# Altium integrated library Capacitors - Aluminum - Electrolytic SMT.IntLib: 1988 symbols (part 48 of 50)
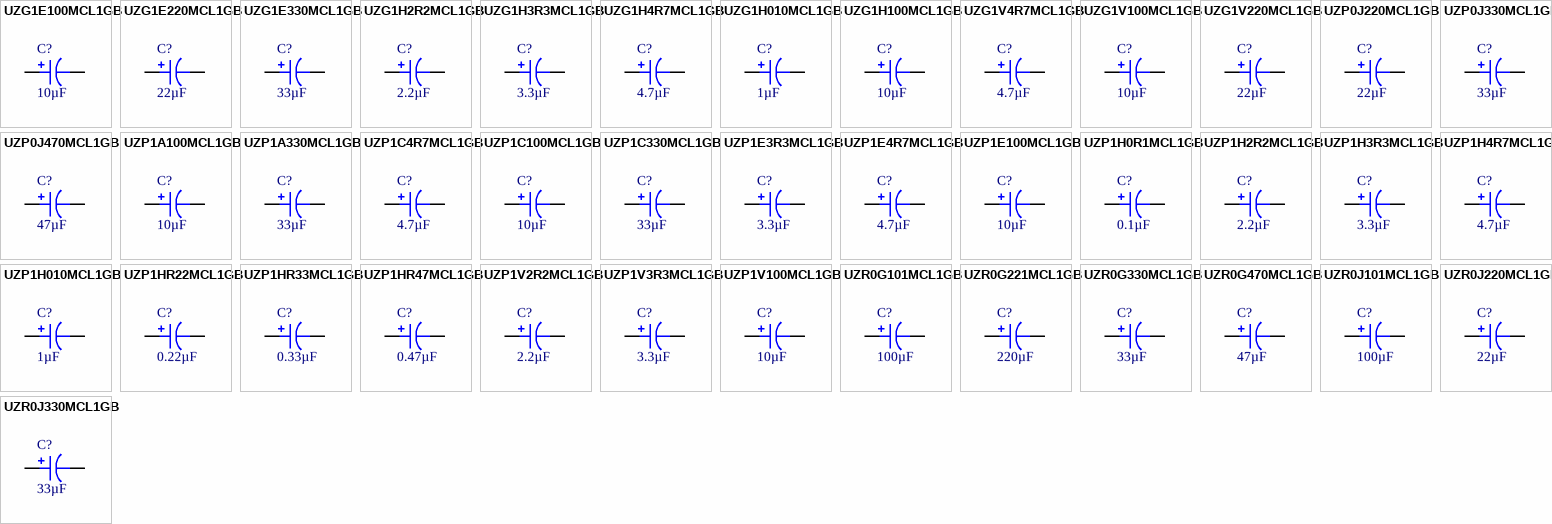
[diagram p95: symbols UZG1E100MCL1GB to UZR0J330MCL1GB]

## UZG1V100MCL1GB
designator C?, comment 10µF
CAP ALUM 10UF 20% 35V SMD; Part Number: UZG1V100MCL1GB; Manufacturer: Nichicon; Lifetime @ Temp.: 1000 Hrs @ 105°C; Ripple Current @ High Frequency: 33mA @ 10kHz; Ripple Current @ Low Frequency: 22mA @ 120Hz; Surface Mount Land Size: 0.209" L x 0.209" W (5.30mm x 5.30mm); Applications: General Purpose; Capacitance: 10µF; ComponentLink1Description: Datasheet; ComponentLink1URL: http://nichicon-us.com/english/products/pdfs/e-uzg.pdf; ComponentLink2Description: DigiKey Link; ComponentLink2URL: http://digikey.com/product-detail/en/nichicon/UZG1V100MCL1GB/493-10059-1-ND/3983904; Device Package: Radial, Can - SMD; Height - Seated (Max): 0.156" (3.95mm); LastUpdated: 9/2/2020 1:18:29 AM; Lifecycle Status: Active; Minimum Order: 1; Mounting Type: Surface Mount; Operating Temperature: -40°C ~ 105°C; Package / Case: Radial, Can - SMD; Packaging: TapeAndReel; PartId: 8573; Part Status: Active; Price: 0.19; Series: UZG; Size / Dimension: 0.197" Dia (5.00mm); Supplier 1: DigiKey; Supplier Part Number 1: 493-10059-1-ND; Tolerance: ±20%; Value: 10µF; Voltage - Rated: 35V
footprint CAP ALSMD 5.3MM H5.4MM
pins: 1, 2

## UZG1V220MCL1GB
designator C?, comment 22µF
CAP ALUM 22UF 20% 35V SMD; Part Number: UZG1V220MCL1GB; Manufacturer: Nichicon; Lifetime @ Temp.: 1000 Hrs @ 105°C; Ripple Current @ High Frequency: 54mA @ 10kHz; Ripple Current @ Low Frequency: 36mA @ 120Hz; Surface Mount Land Size: 0.260" L x 0.260" W (6.60mm x 6.60mm); Applications: General Purpose; Capacitance: 22µF; ComponentLink1Description: Datasheet; ComponentLink1URL: http://nichicon-us.com/english/products/pdfs/e-uzg.pdf; ComponentLink2Description: DigiKey Link; ComponentLink2URL: http://digikey.com/product-detail/en/nichicon/UZG1V220MCL1GB/493-10060-1-ND/3983905; Device Package: Radial, Can - SMD; Height - Seated (Max): 0.156" (3.95mm); LastUpdated: 9/2/2020 1:18:32 AM; Lifecycle Status: Active; Minimum Order: 1; Mounting Type: Surface Mount; Operating Temperature: -40°C ~ 105°C; Package / Case: Radial, Can - SMD; Packaging: TapeAndReel; PartId: 8698; Part Status: Active; Price: 0.22; Series: UZG; Size / Dimension: 0.248" Dia (6.30mm); Supplier 1: DigiKey; Supplier Part Number 1: 493-10060-1-ND; Tolerance: ±20%; Value: 22µF; Voltage - Rated: 35V
footprint CAP ALSMD 6.6MM H5.4MM
pins: 1, 2

## UZP0J220MCL1GB
designator C?, comment 22µF
CAP ALUM 22UF 20% 6.3V SMD; Part Number: UZP0J220MCL1GB; Manufacturer: Nichicon; Lifetime @ Temp.: 2000 Hrs @ 85°C; Polarization: Bi-Polar; Ripple Current @ High Frequency: 42mA @ 10kHz; Ripple Current @ Low Frequency: 28mA @ 120Hz; Surface Mount Land Size: 0.209" L x 0.209" W (5.30mm x 5.30mm); Applications: General Purpose; Capacitance: 22µF; ComponentLink1Description: Datasheet; ComponentLink1URL: //media.digikey.com/pdf/Data%20Sheets/Nichicon%20PDFs/ZP_Series.pdf; ComponentLink2Description: DigiKey Link; ComponentLink2URL: http://digikey.com/product-detail/en/nichicon/UZP0J220MCL1GB/493-10070-1-ND/3983915; Device Package: Radial, Can - SMD; Height - Seated (Max): 0.181" (4.60mm); LastUpdated: 9/2/2020 1:18:30 AM; Lifecycle Status: Active; Minimum Order: 1; Mounting Type: Surface Mount; Operating Temperature: -40°C ~ 85°C; Package / Case: Radial, Can - SMD; Packaging: TapeAndReel; PartId: 8602; Part Status: Active; Price: 0.21; Series: UZP; Size / Dimension: 0.197" Dia (5.00mm); Supplier 1: DigiKey; Supplier Part Number 1: 493-10070-1-ND; Tolerance: ±20%; Value: 22µF; Voltage - Rated: 6.3V
footprint CAP ALSMD 5.3MM H5.4MM
pins: 1, 2

## UZP0J330MCL1GB
designator C?, comment 33µF
CAP ALUM 33UF 20% 6.3V SMD; Part Number: UZP0J330MCL1GB; Manufacturer: Nichicon; Lifetime @ Temp.: 2000 Hrs @ 85°C; Polarization: Bi-Polar; Ripple Current @ High Frequency: 55.5mA @ 10kHz; Ripple Current @ Low Frequency: 37mA @ 120Hz; Surface Mount Land Size: 0.260" L x 0.260" W (6.60mm x 6.60mm); Applications: General Purpose; Capacitance: 33µF; ComponentLink1Description: Datasheet; ComponentLink1URL: //media.digikey.com/pdf/Data%20Sheets/Nichicon%20PDFs/ZP_Series.pdf; ComponentLink2Description: DigiKey Link; ComponentLink2URL: http://digikey.com/product-detail/en/nichicon/UZP0J330MCL1GB/493-10071-1-ND/3983916; Device Package: Radial, Can - SMD; Height - Seated (Max): 0.181" (4.60mm); LastUpdated: 9/2/2020 1:18:32 AM; Lifecycle Status: Active; Minimum Order: 1; Mounting Type: Surface Mount; Operating Temperature: -40°C ~ 85°C; Package / Case: Radial, Can - SMD; Packaging: TapeAndReel; PartId: 8648; Part Status: Active; Price: 0.22; Series: UZP; Size / Dimension: 0.248" Dia (6.30mm); Supplier 1: DigiKey; Supplier Part Number 1: 493-10071-1-ND; Tolerance: ±20%; Value: 33µF; Voltage - Rated: 6.3V
footprint CAP ALSMD 6.6MM H5.4MM
pins: 1, 2

## UZP0J470MCL1GB
designator C?, comment 47µF
CAP ALUM 47UF 20% 6.3V SMD; Part Number: UZP0J470MCL1GB; Manufacturer: Nichicon; Lifetime @ Temp.: 2000 Hrs @ 85°C; Polarization: Bi-Polar; Ripple Current @ Low Frequency: 45mA @ 120Hz; Surface Mount Land Size: 0.260" L x 0.260" W (6.60mm x 6.60mm); Applications: General Purpose; Capacitance: 47µF; ComponentLink1Description: Datasheet; ComponentLink1URL: //media.digikey.com/pdf/Data%20Sheets/Nichicon%20PDFs/ZP_Series.pdf; ComponentLink2Description: DigiKey Link; ComponentLink2URL: http://digikey.com/product-detail/en/nichicon/UZP0J470MCL1GB/493-10072-1-ND/3983917; Device Package: Radial, Can - SMD; Height - Seated (Max): 0.181" (4.60mm); LastUpdated: 9/2/2020 1:18:32 AM; Lifecycle Status: Active; Minimum Order: 1; Mounting Type: Surface Mount; Operating Temperature: -40°C ~ 85°C; Package / Case: Radial, Can - SMD; Packaging: TapeAndReel; PartId: 8647; Part Status: Active; Price: 0.22; Series: UZP; Size / Dimension: 0.248" Dia (6.30mm); Supplier 1: DigiKey; Supplier Part Number 1: 493-10072-1-ND; Tolerance: ±20%; Value: 47µF; Voltage - Rated: 6.3V
footprint CAP ALSMD 6.6MM H5.4MM
pins: 1, 2

## UZP1A100MCL1GB
designator C?, comment 10µF
CAP ALUM 10UF 20% 10V SMD; Part Number: UZP1A100MCL1GB; Manufacturer: Nichicon; Lifetime @ Temp.: 2000 Hrs @ 85°C; Polarization: Bi-Polar; Ripple Current @ High Frequency: 25.5mA @ 10kHz; Ripple Current @ Low Frequency: 17mA @ 120Hz; Surface Mount Land Size: 0.169" L x 0.169" W (4.30mm x 4.30mm); Applications: General Purpose; Capacitance: 10µF; ComponentLink1Description: Datasheet; ComponentLink1URL: //media.digikey.com/pdf/Data%20Sheets/Nichicon%20PDFs/ZP_Series.pdf; ComponentLink2Description: DigiKey Link; ComponentLink2URL: http://digikey.com/product-detail/en/nichicon/UZP1A100MCL1GB/493-10073-1-ND/3983918; Device Package: Radial, Can - SMD; Height - Seated (Max): 0.181" (4.60mm); LastUpdated: 9/2/2020 1:18:27 AM; Lifecycle Status: Active; Minimum Order: 1; Mounting Type: Surface Mount; Operating Temperature: -40°C ~ 85°C; Package / Case: Radial, Can - SMD; Packaging: TapeAndReel; PartId: 8526; Part Status: Active; Price: 0.19; Series: UZP; Size / Dimension: 0.157" Dia (4.00mm); Supplier 1: DigiKey; Supplier Part Number 1: 493-10073-1-ND; Tolerance: ±20%; Value: 10µF; Voltage - Rated: 10V
footprint CAP ALSMD 4.3MM H5.4MM
pins: 1, 2

## UZP1A330MCL1GB
designator C?, comment 33µF
CAP ALUM 33UF 20% 10V SMD; Part Number: UZP1A330MCL1GB; Manufacturer: Nichicon; Lifetime @ Temp.: 2000 Hrs @ 85°C; Polarization: Bi-Polar; Ripple Current @ Low Frequency: 41mA @ 120Hz; Surface Mount Land Size: 0.260" L x 0.260" W (6.60mm x 6.60mm); Applications: General Purpose; Capacitance: 33µF; ComponentLink1Description: Datasheet; ComponentLink1URL: //media.digikey.com/pdf/Data%20Sheets/Nichicon%20PDFs/ZP_Series.pdf; ComponentLink2Description: DigiKey Link; ComponentLink2URL: http://digikey.com/product-detail/en/nichicon/UZP1A330MCL1GB/493-10075-1-ND/3983920; Device Package: Radial, Can - SMD; Height - Seated (Max): 0.181" (4.60mm); LastUpdated: 9/2/2020 1:18:32 AM; Lifecycle Status: Active; Minimum Order: 1; Mounting Type: Surface Mount; Operating Temperature: -40°C ~ 85°C; Package / Case: Radial, Can - SMD; Packaging: TapeAndReel; PartId: 8719; Part Status: Active; Price: 0.22; Series: UZP; Size / Dimension: 0.248" Dia (6.30mm); Supplier 1: DigiKey; Supplier Part Number 1: 493-10075-1-ND; Tolerance: ±20%; Value: 33µF; Voltage - Rated: 10V
footprint CAP ALSMD 6.6MM H5.4MM
pins: 1, 2

## UZP1C4R7MCL1GB
designator C?, comment 4.7µF
CAP ALUM 4.7UF 20% 16V SMD; Part Number: UZP1C4R7MCL1GB; Manufacturer: Nichicon; Lifetime @ Temp.: 2000 Hrs @ 85°C; Polarization: Bi-Polar; Ripple Current @ High Frequency: 18mA @ 10kHz; Ripple Current @ Low Frequency: 12mA @ 120Hz; Surface Mount Land Size: 0.169" L x 0.169" W (4.30mm x 4.30mm); Applications: General Purpose; Capacitance: 4.7µF; ComponentLink1Description: Datasheet; ComponentLink1URL: //media.digikey.com/pdf/Data%20Sheets/Nichicon%20PDFs/ZP_Series.pdf; ComponentLink2Description: DigiKey Link; ComponentLink2URL: http://digikey.com/product-detail/en/nichicon/UZP1C4R7MCL1GB/493-10076-1-ND/3983921; Device Package: Radial, Can - SMD; Height - Seated (Max): 0.181" (4.60mm); LastUpdated: 9/2/2020 1:18:27 AM; Lifecycle Status: Active; Minimum Order: 1; Mounting Type: Surface Mount; Operating Temperature: -40°C ~ 85°C; Package / Case: Radial, Can - SMD; Packaging: TapeAndReel; PartId: 8542; Part Status: Active; Price: 0.19; Series: UZP; Size / Dimension: 0.157" Dia (4.00mm); Supplier 1: DigiKey; Supplier Part Number 1: 493-10076-1-ND; Tolerance: ±20%; Value: 4.7µF; Voltage - Rated: 16V
footprint CAP ALSMD 4.3MM H5.4MM
pins: 1, 2

## UZP1C100MCL1GB
designator C?, comment 10µF
CAP ALUM 10UF 20% 16V SMD; Part Number: UZP1C100MCL1GB; Manufacturer: Nichicon; Lifetime @ Temp.: 2000 Hrs @ 85°C; Polarization: Bi-Polar; Ripple Current @ High Frequency: 34.5mA @ 10kHz; Ripple Current @ Low Frequency: 23mA @ 120Hz; Surface Mount Land Size: 0.209" L x 0.209" W (5.30mm x 5.30mm); Applications: General Purpose; Capacitance: 10µF; ComponentLink1Description: Datasheet; ComponentLink1URL: //media.digikey.com/pdf/Data%20Sheets/Nichicon%20PDFs/ZP_Series.pdf; ComponentLink2Description: DigiKey Link; ComponentLink2URL: http://digikey.com/product-detail/en/nichicon/UZP1C100MCL1GB/493-10077-1-ND/3983922; Device Package: Radial, Can - SMD; Height - Seated (Max): 0.181" (4.60mm); LastUpdated: 9/2/2020 1:18:30 AM; Lifecycle Status: Active; Minimum Order: 1; Mounting Type: Surface Mount; Operating Temperature: -40°C ~ 85°C; Package / Case: Radial, Can - SMD; Packaging: TapeAndReel; PartId: 8608; Part Status: Active; Price: 0.21; Series: UZP; Size / Dimension: 0.197" Dia (5.00mm); Supplier 1: DigiKey; Supplier Part Number 1: 493-10077-1-ND; Tolerance: ±20%; Value: 10µF; Voltage - Rated: 16V
footprint CAP ALSMD 5.3MM H5.4MM
pins: 1, 2

## UZP1C330MCL1GB
designator C?, comment 33µF
CAP ALUM 33UF 20% 16V SMD; Part Number: UZP1C330MCL1GB; Manufacturer: Nichicon; Lifetime @ Temp.: 2000 Hrs @ 85°C; Polarization: Bi-Polar; Ripple Current @ High Frequency: 73.5mA @ 10kHz; Ripple Current @ Low Frequency: 49mA @ 120Hz; Surface Mount Land Size: 0.260" L x 0.260" W (6.60mm x 6.60mm); Applications: General Purpose; Capacitance: 33µF; ComponentLink1Description: Datasheet; ComponentLink1URL: //media.digikey.com/pdf/Data%20Sheets/Nichicon%20PDFs/ZP_Series.pdf; ComponentLink2Description: DigiKey Link; ComponentLink2URL: http://digikey.com/product-detail/en/nichicon/UZP1C330MCL1GB/493-10079-1-ND/3983924; Device Package: Radial, Can - SMD; Height - Seated (Max): 0.181" (4.60mm); LastUpdated: 9/2/2020 1:18:32 AM; Lifecycle Status: Active; Minimum Order: 1; Mounting Type: Surface Mount; Operating Temperature: -40°C ~ 85°C; Package / Case: Radial, Can - SMD; Packaging: TapeAndReel; PartId: 8646; Part Status: Active; Price: 0.22; Series: UZP; Size / Dimension: 0.248" Dia (6.30mm); Supplier 1: DigiKey; Supplier Part Number 1: 493-10079-1-ND; Tolerance: ±20%; Value: 33µF; Voltage - Rated: 16V
footprint CAP ALSMD 6.6MM H5.4MM
pins: 1, 2

## UZP1E3R3MCL1GB
designator C?, comment 3.3µF
CAP ALUM 3.3UF 20% 25V SMD; Part Number: UZP1E3R3MCL1GB; Manufacturer: Nichicon; Lifetime @ Temp.: 2000 Hrs @ 85°C; Polarization: Bi-Polar; Ripple Current @ High Frequency: 18mA @ 10kHz; Ripple Current @ Low Frequency: 12mA @ 120Hz; Surface Mount Land Size: 0.209" L x 0.209" W (5.30mm x 5.30mm); Applications: General Purpose; Capacitance: 3.3µF; ComponentLink1Description: Datasheet; ComponentLink1URL: //media.digikey.com/pdf/Data%20Sheets/Nichicon%20PDFs/ZP_Series.pdf; ComponentLink2Description: DigiKey Link; ComponentLink2URL: http://digikey.com/product-detail/en/nichicon/UZP1E3R3MCL1GB/493-10080-1-ND/3983925; Device Package: Radial, Can - SMD; Height - Seated (Max): 0.181" (4.60mm); LastUpdated: 9/2/2020 1:18:30 AM; Lifecycle Status: Active; Minimum Order: 1; Mounting Type: Surface Mount; Operating Temperature: -40°C ~ 85°C; Package / Case: Radial, Can - SMD; Packaging: TapeAndReel; PartId: 8611; Part Status: Active; Price: 0.20; Series: UZP; Size / Dimension: 0.197" Dia (5.00mm); Supplier 1: DigiKey; Supplier Part Number 1: 493-10080-1-ND; Tolerance: ±20%; Value: 3.3µF; Voltage - Rated: 25V
footprint CAP ALSMD 5.3MM H5.4MM
pins: 1, 2

## UZP1E4R7MCL1GB
designator C?, comment 4.7µF
CAP ALUM 4.7UF 20% 25V SMD; Part Number: UZP1E4R7MCL1GB; Manufacturer: Nichicon; Lifetime @ Temp.: 2000 Hrs @ 85°C; Polarization: Bi-Polar; Ripple Current @ High Frequency: 24mA @ 10kHz; Ripple Current @ Low Frequency: 16mA @ 120Hz; Surface Mount Land Size: 0.209" L x 0.209" W (5.30mm x 5.30mm); Applications: General Purpose; Capacitance: 4.7µF; ComponentLink1Description: Datasheet; ComponentLink1URL: //media.digikey.com/pdf/Data%20Sheets/Nichicon%20PDFs/ZP_Series.pdf; ComponentLink2Description: DigiKey Link; ComponentLink2URL: http://digikey.com/product-detail/en/nichicon/UZP1E4R7MCL1GB/493-10081-1-ND/3983926; Device Package: Radial, Can - SMD; Height - Seated (Max): 0.181" (4.60mm); LastUpdated: 9/2/2020 1:18:30 AM; Lifecycle Status: Active; Minimum Order: 1; Mounting Type: Surface Mount; Operating Temperature: -40°C ~ 85°C; Package / Case: Radial, Can - SMD; Packaging: TapeAndReel; PartId: 8612; Part Status: Active; Price: 0.20; Series: UZP; Size / Dimension: 0.197" Dia (5.00mm); Supplier 1: DigiKey; Supplier Part Number 1: 493-10081-1-ND; Tolerance: ±20%; Value: 4.7µF; Voltage - Rated: 25V
footprint CAP ALSMD 5.3MM H5.4MM
pins: 1, 2

## UZP1E100MCL1GB
designator C?, comment 10µF
CAP ALUM 10UF 20% 25V SMD; Part Number: UZP1E100MCL1GB; Manufacturer: Nichicon; Lifetime @ Temp.: 2000 Hrs @ 85°C; Polarization: Bi-Polar; Ripple Current @ High Frequency: 40.5mA @ 10kHz; Ripple Current @ Low Frequency: 27mA @ 120Hz; Surface Mount Land Size: 0.260" L x 0.260" W (6.60mm x 6.60mm); Applications: General Purpose; Capacitance: 10µF; ComponentLink1Description: Datasheet; ComponentLink1URL: //media.digikey.com/pdf/Data%20Sheets/Nichicon%20PDFs/ZP_Series.pdf; ComponentLink2Description: DigiKey Link; ComponentLink2URL: http://digikey.com/product-detail/en/nichicon/UZP1E100MCL1GB/493-10082-1-ND/3983927; Device Package: Radial, Can - SMD; Height - Seated (Max): 0.181" (4.60mm); LastUpdated: 9/2/2020 1:18:32 AM; Lifecycle Status: Active; Minimum Order: 1; Mounting Type: Surface Mount; Operating Temperature: -40°C ~ 85°C; Package / Case: Radial, Can - SMD; Packaging: TapeAndReel; PartId: 8716; Part Status: Active; Price: 0.22; Series: UZP; Size / Dimension: 0.248" Dia (6.30mm); Supplier 1: DigiKey; Supplier Part Number 1: 493-10082-1-ND; Tolerance: ±20%; Value: 10µF; Voltage - Rated: 25V
footprint CAP ALSMD 6.6MM H5.4MM
pins: 1, 2

## UZP1H0R1MCL1GB
designator C?, comment 0.1µF
CAP ALUM 0.1UF 20% 50V SMD; Part Number: UZP1H0R1MCL1GB; Manufacturer: Nichicon; Lifetime @ Temp.: 2000 Hrs @ 85°C; Polarization: Bi-Polar; Ripple Current @ High Frequency: 1.5mA @ 10kHz; Ripple Current @ Low Frequency: 1mA @ 120Hz; Surface Mount Land Size: 0.169" L x 0.169" W (4.30mm x 4.30mm); Applications: General Purpose; Capacitance: 0.1µF; ComponentLink1Description: Datasheet; ComponentLink1URL: //media.digikey.com/pdf/Data%20Sheets/Nichicon%20PDFs/ZP_Series.pdf; ComponentLink2Description: DigiKey Link; ComponentLink2URL: http://digikey.com/product-detail/en/nichicon/UZP1H0R1MCL1GB/493-10087-1-ND/3983932; Device Package: Radial, Can - SMD; Height - Seated (Max): 0.181" (4.60mm); LastUpdated: 9/2/2020 1:18:27 AM; Lifecycle Status: Active; Minimum Order: 1; Mounting Type: Surface Mount; Operating Temperature: -40°C ~ 85°C; Package / Case: Radial, Can - SMD; Packaging: TapeAndReel; PartId: 8527; Part Status: Active; Price: 0.19; Series: UZP; Size / Dimension: 0.157" Dia (4.00mm); Supplier 1: DigiKey; Supplier Part Number 1: 493-10087-1-ND; Tolerance: ±20%; Value: 0.1µF; Voltage - Rated: 50V
footprint CAP ALSMD 4.3MM H5.4MM
pins: 1, 2

## UZP1H2R2MCL1GB
designator C?, comment 2.2µF
CAP ALUM 2.2UF 20% 50V SMD; Part Number: UZP1H2R2MCL1GB; Manufacturer: Nichicon; Lifetime @ Temp.: 2000 Hrs @ 85°C; Polarization: Bi-Polar; Ripple Current @ High Frequency: 19.5mA @ 10kHz; Ripple Current @ Low Frequency: 13mA @ 120Hz; Surface Mount Land Size: 0.209" L x 0.209" W (5.30mm x 5.30mm); Applications: General Purpose; Capacitance: 2.2µF; ComponentLink1Description: Datasheet; ComponentLink1URL: //media.digikey.com/pdf/Data%20Sheets/Nichicon%20PDFs/ZP_Series.pdf; ComponentLink2Description: DigiKey Link; ComponentLink2URL: http://digikey.com/product-detail/en/nichicon/UZP1H2R2MCL1GB/493-10092-1-ND/3983937; Device Package: Radial, Can - SMD; Height - Seated (Max): 0.181" (4.60mm); LastUpdated: 9/2/2020 1:18:30 AM; Lifecycle Status: Active; Minimum Order: 1; Mounting Type: Surface Mount; Operating Temperature: -40°C ~ 85°C; Package / Case: Radial, Can - SMD; Packaging: TapeAndReel; PartId: 8610; Part Status: Active; Price: 0.21; Series: UZP; Size / Dimension: 0.197" Dia (5.00mm); Supplier 1: DigiKey; Supplier Part Number 1: 493-10092-1-ND; Tolerance: ±20%; Value: 2.2µF; Voltage - Rated: 50V
footprint CAP ALSMD 5.3MM H5.4MM
pins: 1, 2

## UZP1H3R3MCL1GB
designator C?, comment 3.3µF
CAP ALUM 3.3UF 20% 50V SMD; Part Number: UZP1H3R3MCL1GB; Manufacturer: Nichicon; Lifetime @ Temp.: 2000 Hrs @ 85°C; Polarization: Bi-Polar; Ripple Current @ High Frequency: 25.5mA @ 10kHz; Ripple Current @ Low Frequency: 17mA @ 120Hz; Surface Mount Land Size: 0.209" L x 0.209" W (5.30mm x 5.30mm); Applications: General Purpose; Capacitance: 3.3µF; ComponentLink1Description: Datasheet; ComponentLink1URL: //media.digikey.com/pdf/Data%20Sheets/Nichicon%20PDFs/ZP_Series.pdf; ComponentLink2Description: DigiKey Link; ComponentLink2URL: http://digikey.com/product-detail/en/nichicon/UZP1H3R3MCL1GB/493-10093-1-ND/3983938; Device Package: Radial, Can - SMD; Height - Seated (Max): 0.181" (4.60mm); LastUpdated: 9/2/2020 1:18:30 AM; Lifecycle Status: Active; Minimum Order: 1; Mounting Type: Surface Mount; Operating Temperature: -40°C ~ 85°C; Package / Case: Radial, Can - SMD; Packaging: TapeAndReel; PartId: 8601; Part Status: Active; Price: 0.21; Series: UZP; Size / Dimension: 0.197" Dia (5.00mm); Supplier 1: DigiKey; Supplier Part Number 1: 493-10093-1-ND; Tolerance: ±20%; Value: 3.3µF; Voltage - Rated: 50V
footprint CAP ALSMD 5.3MM H5.4MM
pins: 1, 2

## UZP1H4R7MCL1GB
designator C?, comment 4.7µF
CAP ALUM 4.7UF 20% 50V SMD; Part Number: UZP1H4R7MCL1GB; Manufacturer: Nichicon; Lifetime @ Temp.: 2000 Hrs @ 85°C; Polarization: Bi-Polar; Ripple Current @ High Frequency: 30mA @ 10kHz; Ripple Current @ Low Frequency: 20mA @ 120Hz; Surface Mount Land Size: 0.260" L x 0.260" W (6.60mm x 6.60mm); Applications: General Purpose; Capacitance: 4.7µF; ComponentLink1Description: Datasheet; ComponentLink1URL: //media.digikey.com/pdf/Data%20Sheets/Nichicon%20PDFs/ZP_Series.pdf; ComponentLink2Description: DigiKey Link; ComponentLink2URL: http://digikey.com/product-detail/en/nichicon/UZP1H4R7MCL1GB/493-10094-1-ND/3983939; Device Package: Radial, Can - SMD; Height - Seated (Max): 0.181" (4.60mm); LastUpdated: 9/2/2020 1:18:32 AM; Lifecycle Status: Active; Minimum Order: 1; Mounting Type: Surface Mount; Operating Temperature: -40°C ~ 85°C; Package / Case: Radial, Can - SMD; Packaging: TapeAndReel; PartId: 8718; Part Status: Active; Price: 0.22; Series: UZP; Size / Dimension: 0.248" Dia (6.30mm); Supplier 1: DigiKey; Supplier Part Number 1: 493-10094-1-ND; Tolerance: ±20%; Value: 4.7µF; Voltage - Rated: 50V
footprint CAP ALSMD 6.6MM H5.4MM
pins: 1, 2

## UZP1H010MCL1GB
designator C?, comment 1µF
CAP ALUM 1UF 20% 50V SMD; Part Number: UZP1H010MCL1GB; Manufacturer: Nichicon; Lifetime @ Temp.: 2000 Hrs @ 85°C; Polarization: Bi-Polar; Ripple Current @ High Frequency: 12.6mA @ 10kHz; Ripple Current @ Low Frequency: 8.4mA @ 120Hz; Surface Mount Land Size: 0.169" L x 0.169" W (4.30mm x 4.30mm); Applications: General Purpose; Capacitance: 1µF; ComponentLink1Description: Datasheet; ComponentLink1URL: //media.digikey.com/pdf/Data%20Sheets/Nichicon%20PDFs/ZP_Series.pdf; ComponentLink2Description: DigiKey Link; ComponentLink2URL: http://digikey.com/product-detail/en/nichicon/UZP1H010MCL1GB/493-10091-1-ND/3983936; Device Package: Radial, Can - SMD; Height - Seated (Max): 0.181" (4.60mm); LastUpdated: 9/2/2020 1:18:27 AM; Lifecycle Status: Active; Minimum Order: 1; Mounting Type: Surface Mount; Operating Temperature: -40°C ~ 85°C; Package / Case: Radial, Can - SMD; Packaging: TapeAndReel; PartId: 8530; Part Status: Active; Price: 0.19; Series: UZP; Size / Dimension: 0.157" Dia (4.00mm); Supplier 1: DigiKey; Supplier Part Number 1: 493-10091-1-ND; Tolerance: ±20%; Value: 1µF; Voltage - Rated: 50V
footprint CAP ALSMD 4.3MM H5.4MM
pins: 1, 2

## UZP1HR22MCL1GB
designator C?, comment 0.22µF
CAP ALUM 0.22UF 20% 50V SMD; Part Number: UZP1HR22MCL1GB; Manufacturer: Nichicon; Lifetime @ Temp.: 2000 Hrs @ 85°C; Polarization: Bi-Polar; Ripple Current @ High Frequency: 3mA @ 10kHz; Ripple Current @ Low Frequency: 2mA @ 120Hz; Surface Mount Land Size: 0.169" L x 0.169" W (4.30mm x 4.30mm); Applications: General Purpose; Capacitance: 0.22µF; ComponentLink1Description: Datasheet; ComponentLink1URL: //media.digikey.com/pdf/Data%20Sheets/Nichicon%20PDFs/ZP_Series.pdf; ComponentLink2Description: DigiKey Link; ComponentLink2URL: http://digikey.com/product-detail/en/nichicon/UZP1HR22MCL1GB/493-10088-1-ND/3983933; Device Package: Radial, Can - SMD; Height - Seated (Max): 0.181" (4.60mm); LastUpdated: 9/2/2020 1:18:27 AM; Lifecycle Status: Active; Minimum Order: 1; Mounting Type: Surface Mount; Operating Temperature: -40°C ~ 85°C; Package / Case: Radial, Can - SMD; Packaging: TapeAndReel; PartId: 8528; Part Status: Active; Price: 0.19; Series: UZP; Size / Dimension: 0.157" Dia (4.00mm); Supplier 1: DigiKey; Supplier Part Number 1: 493-10088-1-ND; Tolerance: ±20%; Value: 0.22µF; Voltage - Rated: 50V
footprint CAP ALSMD 4.3MM H5.4MM
pins: 1, 2

## UZP1HR33MCL1GB
designator C?, comment 0.33µF
CAP ALUM 0.33UF 20% 50V SMD; Part Number: UZP1HR33MCL1GB; Manufacturer: Nichicon; Lifetime @ Temp.: 2000 Hrs @ 85°C; Polarization: Bi-Polar; Ripple Current @ High Frequency: 4.2mA @ 10kHz; Ripple Current @ Low Frequency: 2.8mA @ 120Hz; Surface Mount Land Size: 0.169" L x 0.169" W (4.30mm x 4.30mm); Applications: General Purpose; Capacitance: 0.33µF; ComponentLink1Description: Datasheet; ComponentLink1URL: //media.digikey.com/pdf/Data%20Sheets/Nichicon%20PDFs/ZP_Series.pdf; ComponentLink2Description: DigiKey Link; ComponentLink2URL: http://digikey.com/product-detail/en/nichicon/UZP1HR33MCL1GB/493-10089-1-ND/3983934; Device Package: Radial, Can - SMD; Height - Seated (Max): 0.181" (4.60mm); LastUpdated: 9/2/2020 1:18:27 AM; Lifecycle Status: Active; Minimum Order: 1; Mounting Type: Surface Mount; Operating Temperature: -40°C ~ 85°C; Package / Case: Radial, Can - SMD; Packaging: TapeAndReel; PartId: 8529; Part Status: Active; Price: 0.19; Series: UZP; Size / Dimension: 0.157" Dia (4.00mm); Supplier 1: DigiKey; Supplier Part Number 1: 493-10089-1-ND; Tolerance: ±20%; Value: 0.33µF; Voltage - Rated: 50V
footprint CAP ALSMD 4.3MM H5.4MM
pins: 1, 2

## UZP1HR47MCL1GB
designator C?, comment 0.47µF
CAP ALUM 0.47UF 20% 50V SMD; Part Number: UZP1HR47MCL1GB; Manufacturer: Nichicon; Lifetime @ Temp.: 2000 Hrs @ 85°C; Polarization: Bi-Polar; Ripple Current @ High Frequency: 6mA @ 10kHz; Ripple Current @ Low Frequency: 4mA @ 120Hz; Surface Mount Land Size: 0.169" L x 0.169" W (4.30mm x 4.30mm); Applications: General Purpose; Capacitance: 0.47µF; ComponentLink1Description: Datasheet; ComponentLink1URL: //media.digikey.com/pdf/Data%20Sheets/Nichicon%20PDFs/ZP_Series.pdf; ComponentLink2Description: DigiKey Link; ComponentLink2URL: http://digikey.com/product-detail/en/nichicon/UZP1HR47MCL1GB/493-10090-1-ND/3983935; Device Package: Radial, Can - SMD; Height - Seated (Max): 0.181" (4.60mm); LastUpdated: 9/2/2020 1:18:27 AM; Lifecycle Status: Active; Minimum Order: 1; Mounting Type: Surface Mount; Operating Temperature: -40°C ~ 85°C; Package / Case: Radial, Can - SMD; Packaging: TapeAndReel; PartId: 8551; Part Status: Active; Price: 0.19; Series: UZP; Size / Dimension: 0.157" Dia (4.00mm); Supplier 1: DigiKey; Supplier Part Number 1: 493-10090-1-ND; Tolerance: ±20%; Value: 0.47µF; Voltage - Rated: 50V
footprint CAP ALSMD 4.3MM H5.4MM
pins: 1, 2

## UZP1V2R2MCL1GB
designator C?, comment 2.2µF
CAP ALUM 2.2UF 20% 35V SMD; Part Number: UZP1V2R2MCL1GB; Manufacturer: Nichicon; Lifetime @ Temp.: 2000 Hrs @ 85°C; Polarization: Bi-Polar; Ripple Current @ High Frequency: 12.6mA @ 10kHz; Ripple Current @ Low Frequency: 8.4mA @ 120Hz; Surface Mount Land Size: 0.169" L x 0.169" W (4.30mm x 4.30mm); Applications: General Purpose; Capacitance: 2.2µF; ComponentLink1Description: Datasheet; ComponentLink1URL: //media.digikey.com/pdf/Data%20Sheets/Nichicon%20PDFs/ZP_Series.pdf; ComponentLink2Description: DigiKey Link; ComponentLink2URL: http://digikey.com/product-detail/en/nichicon/UZP1V2R2MCL1GB/493-10083-1-ND/3983928; Device Package: Radial, Can - SMD; Height - Seated (Max): 0.181" (4.60mm); LastUpdated: 9/2/2020 1:18:27 AM; Lifecycle Status: Active; Minimum Order: 1; Mounting Type: Surface Mount; Operating Temperature: -40°C ~ 85°C; Package / Case: Radial, Can - SMD; Packaging: TapeAndReel; PartId: 8525; Part Status: Active; Price: 0.19; Series: UZP; Size / Dimension: 0.157" Dia (4.00mm); Supplier 1: DigiKey; Supplier Part Number 1: 493-10083-1-ND; Tolerance: ±20%; Value: 2.2µF; Voltage - Rated: 35V
footprint CAP ALSMD 4.3MM H5.4MM
pins: 1, 2

## UZP1V3R3MCL1GB
designator C?, comment 3.3µF
CAP ALUM 3.3UF 20% 35V SMD; Part Number: UZP1V3R3MCL1GB; Manufacturer: Nichicon; Lifetime @ Temp.: 2000 Hrs @ 85°C; Polarization: Bi-Polar; Ripple Current @ High Frequency: 24mA @ 10kHz; Ripple Current @ Low Frequency: 16mA @ 120Hz; Surface Mount Land Size: 0.209" L x 0.209" W (5.30mm x 5.30mm); Applications: General Purpose; Capacitance: 3.3µF; ComponentLink1Description: Datasheet; ComponentLink1URL: //media.digikey.com/pdf/Data%20Sheets/Nichicon%20PDFs/ZP_Series.pdf; ComponentLink2Description: DigiKey Link; ComponentLink2URL: http://digikey.com/product-detail/en/nichicon/UZP1V3R3MCL1GB/493-10084-1-ND/3983929; Device Package: Radial, Can - SMD; Height - Seated (Max): 0.181" (4.60mm); LastUpdated: 9/2/2020 1:18:30 AM; Lifecycle Status: Active; Minimum Order: 1; Mounting Type: Surface Mount; Operating Temperature: -40°C ~ 85°C; Package / Case: Radial, Can - SMD; Packaging: TapeAndReel; PartId: 8609; Part Status: Active; Price: 0.21; Series: UZP; Size / Dimension: 0.197" Dia (5.00mm); Supplier 1: DigiKey; Supplier Part Number 1: 493-10084-1-ND; Tolerance: ±20%; Value: 3.3µF; Voltage - Rated: 35V
footprint CAP ALSMD 5.3MM H5.4MM
pins: 1, 2

## UZP1V100MCL1GB
designator C?, comment 10µF
CAP ALUM 10UF 20% 35V SMD; Part Number: UZP1V100MCL1GB; Manufacturer: Nichicon; Lifetime @ Temp.: 2000 Hrs @ 85°C; Polarization: Bi-Polar; Ripple Current @ High Frequency: 43.5mA @ 10kHz; Ripple Current @ Low Frequency: 29mA @ 120Hz; Surface Mount Land Size: 0.260" L x 0.260" W (6.60mm x 6.60mm); Applications: General Purpose; Capacitance: 10µF; ComponentLink1Description: Datasheet; ComponentLink1URL: //media.digikey.com/pdf/Data%20Sheets/Nichicon%20PDFs/ZP_Series.pdf; ComponentLink2Description: DigiKey Link; ComponentLink2URL: http://digikey.com/product-detail/en/nichicon/UZP1V100MCL1GB/493-10086-1-ND/3983931; Device Package: Radial, Can - SMD; Height - Seated (Max): 0.181" (4.60mm); LastUpdated: 9/2/2020 1:18:32 AM; Lifecycle Status: Active; Minimum Order: 1; Mounting Type: Surface Mount; Operating Temperature: -40°C ~ 85°C; Package / Case: Radial, Can - SMD; Packaging: TapeAndReel; PartId: 8717; Part Status: Active; Price: 0.22; Series: UZP; Size / Dimension: 0.248" Dia (6.30mm); Supplier 1: DigiKey; Supplier Part Number 1: 493-10086-1-ND; Tolerance: ±20%; Value: 10µF; Voltage - Rated: 35V
footprint CAP ALSMD 6.6MM H5.4MM
pins: 1, 2

## UZR0G101MCL1GB
designator C?, comment 100µF
CAP ALUM 100UF 20% 4V SMD; Part Number: UZR0G101MCL1GB; Manufacturer: Nichicon; Lifetime @ Temp.: 1000 Hrs @ 85°C; Ripple Current @ High Frequency: 84mA @ 10kHz; Ripple Current @ Low Frequency: 56mA @ 120Hz; Surface Mount Land Size: 0.209" L x 0.209" W (5.30mm x 5.30mm); Applications: General Purpose; Capacitance: 100µF; ComponentLink1Description: Datasheet; ComponentLink1URL: http://nichicon-us.com/english/products/pdfs/e-uzr.pdf; ComponentLink2Description: DigiKey Link; ComponentLink2URL: http://digikey.com/product-detail/en/nichicon/UZR0G101MCL1GB/493-10097-1-ND/3983942; Device Package: Radial, Can - SMD; Height - Seated (Max): 0.156" (3.95mm); LastUpdated: 9/2/2020 1:18:30 AM; Lifecycle Status: Active; Minimum Order: 1; Mounting Type: Surface Mount; Operating Temperature: -40°C ~ 85°C; Package / Case: Radial, Can - SMD; Packaging: TapeAndReel; PartId: 8591; Part Status: Active; Price: 0.16; Series: UZR; Size / Dimension: 0.197" Dia (5.00mm); Supplier 1: DigiKey; Supplier Part Number 1: 493-10097-1-ND; Tolerance: ±20%; Value: 100µF; Voltage - Rated: 4V
footprint CAP ALSMD 5.3MM H5.4MM
pins: 1, 2

## UZR0G221MCL1GB
designator C?, comment 220µF
CAP ALUM 220UF 20% 4V SMD; Part Number: UZR0G221MCL1GB; Manufacturer: Nichicon; Lifetime @ Temp.: 1000 Hrs @ 85°C; Ripple Current @ High Frequency: 144mA @ 10kHz; Ripple Current @ Low Frequency: 96mA @ 120Hz; Surface Mount Land Size: 0.260" L x 0.260" W (6.60mm x 6.60mm); Applications: General Purpose; Capacitance: 220µF; ComponentLink1Description: Datasheet; ComponentLink1URL: http://nichicon-us.com/english/products/pdfs/e-uzr.pdf; ComponentLink2Description: DigiKey Link; ComponentLink2URL: http://digikey.com/product-detail/en/nichicon/UZR0G221MCL1GB/493-10098-1-ND/3983943; Device Package: Radial, Can - SMD; Height - Seated (Max): 0.156" (3.95mm); LastUpdated: 9/2/2020 1:18:32 AM; Lifecycle Status: Active; Minimum Order: 1; Mounting Type: Surface Mount; Operating Temperature: -40°C ~ 85°C; Package / Case: Radial, Can - SMD; Packaging: TapeAndReel; PartId: 8715; Part Status: Active; Price: 0.18; Series: UZR; Size / Dimension: 0.248" Dia (6.30mm); Supplier 1: DigiKey; Supplier Part Number 1: 493-10098-1-ND; Tolerance: ±20%; Value: 220µF; Voltage - Rated: 4V
footprint CAP ALSMD 6.6MM H5.4MM
pins: 1, 2

## UZR0G330MCL1GB
designator C?, comment 33µF
CAP ALUM 33UF 20% 4V SMD; Part Number: UZR0G330MCL1GB; Manufacturer: Nichicon; Lifetime @ Temp.: 1000 Hrs @ 85°C; Ripple Current @ High Frequency: 42mA @ 10kHz; Ripple Current @ Low Frequency: 28mA @ 120Hz; Surface Mount Land Size: 0.169" L x 0.169" W (4.30mm x 4.30mm); Applications: General Purpose; Capacitance: 33µF; ComponentLink1Description: Datasheet; ComponentLink1URL: http://nichicon-us.com/english/products/pdfs/e-uzr.pdf; ComponentLink2Description: DigiKey Link; ComponentLink2URL: http://digikey.com/product-detail/en/nichicon/UZR0G330MCL1GB/493-10095-1-ND/3983940; Device Package: Radial, Can - SMD; Height - Seated (Max): 0.156" (3.95mm); LastUpdated: 9/2/2020 1:18:27 AM; Lifecycle Status: Active; Minimum Order: 1; Mounting Type: Surface Mount; Operating Temperature: -40°C ~ 85°C; Package / Case: Radial, Can - SMD; Packaging: TapeAndReel; PartId: 8546; Part Status: Active; Price: 0.13; Series: UZR; Size / Dimension: 0.157" Dia (4.00mm); Supplier 1: DigiKey; Supplier Part Number 1: 493-10095-1-ND; Tolerance: ±20%; Value: 33µF; Voltage - Rated: 4V
footprint CAP ALSMD 4.3MM H5.4MM
pins: 1, 2

## UZR0G470MCL1GB
designator C?, comment 47µF
CAP ALUM 47UF 20% 4V SMD; Part Number: UZR0G470MCL1GB; Manufacturer: Nichicon; Lifetime @ Temp.: 1000 Hrs @ 85°C; Ripple Current @ High Frequency: 49.5mA @ 10kHz; Ripple Current @ Low Frequency: 33mA @ 120Hz; Surface Mount Land Size: 0.169" L x 0.169" W (4.30mm x 4.30mm); Applications: General Purpose; Capacitance: 47µF; ComponentLink1Description: Datasheet; ComponentLink1URL: http://nichicon-us.com/english/products/pdfs/e-uzr.pdf; ComponentLink2Description: DigiKey Link; ComponentLink2URL: http://digikey.com/product-detail/en/nichicon/UZR0G470MCL1GB/493-10096-1-ND/3983941; Device Package: Radial, Can - SMD; Height - Seated (Max): 0.156" (3.95mm); LastUpdated: 9/2/2020 1:18:27 AM; Lifecycle Status: Active; Minimum Order: 1; Mounting Type: Surface Mount; Operating Temperature: -40°C ~ 85°C; Package / Case: Radial, Can - SMD; Packaging: TapeAndReel; PartId: 8531; Part Status: Active; Price: 0.13; Series: UZR; Size / Dimension: 0.157" Dia (4.00mm); Supplier 1: DigiKey; Supplier Part Number 1: 493-10096-1-ND; Tolerance: ±20%; Value: 47µF; Voltage - Rated: 4V
footprint CAP ALSMD 4.3MM H5.4MM
pins: 1, 2

## UZR0J101MCL1GB
designator C?, comment 100µF
CAP ALUM 100UF 20% 6.3V SMD; Part Number: UZR0J101MCL1GB; Manufacturer: Nichicon; Lifetime @ Temp.: 1000 Hrs @ 85°C; Ripple Current @ High Frequency: 105mA @ 10kHz; Ripple Current @ Low Frequency: 70mA @ 120Hz; Surface Mount Land Size: 0.260" L x 0.260" W (6.60mm x 6.60mm); Applications: General Purpose; Capacitance: 100µF; ComponentLink1Description: Datasheet; ComponentLink1URL: http://nichicon-us.com/english/products/pdfs/e-uzr.pdf; ComponentLink2Description: DigiKey Link; ComponentLink2URL: http://digikey.com/product-detail/en/nichicon/UZR0J101MCL1GB/493-10102-1-ND/3983947; Device Package: Radial, Can - SMD; Height - Seated (Max): 0.156" (3.95mm); LastUpdated: 9/2/2020 1:18:33 AM; Lifecycle Status: Active; Minimum Order: 1; Mounting Type: Surface Mount; Operating Temperature: -40°C ~ 85°C; Package / Case: Radial, Can - SMD; Packaging: TapeAndReel; PartId: 8735; Part Status: Active; Price: 0.18; Series: UZR; Size / Dimension: 0.248" Dia (6.30mm); Supplier 1: DigiKey; Supplier Part Number 1: 493-10102-1-ND; Tolerance: ±20%; Value: 100µF; Voltage - Rated: 6.3V
footprint CAP ALSMD 6.6MM H5.4MM
pins: 1, 2

## UZR0J220MCL1GB
designator C?, comment 22µF
CAP ALUM 22UF 20% 6.3V SMD; Part Number: UZR0J220MCL1GB; Manufacturer: Nichicon; Lifetime @ Temp.: 1000 Hrs @ 85°C; Ripple Current @ High Frequency: 42mA @ 10kHz; Ripple Current @ Low Frequency: 28mA @ 120Hz; Surface Mount Land Size: 0.169" L x 0.169" W (4.30mm x 4.30mm); Applications: General Purpose; Capacitance: 22µF; ComponentLink1Description: Datasheet; ComponentLink1URL: http://nichicon-us.com/english/products/pdfs/e-uzr.pdf; ComponentLink2Description: DigiKey Link; ComponentLink2URL: http://digikey.com/product-detail/en/nichicon/UZR0J220MCL1GB/493-10099-1-ND/3983944; Device Package: Radial, Can - SMD; Height - Seated (Max): 0.156" (3.95mm); LastUpdated: 9/2/2020 1:18:27 AM; Lifecycle Status: Active; Minimum Order: 1; Mounting Type: Surface Mount; Operating Temperature: -40°C ~ 85°C; Package / Case: Radial, Can - SMD; Packaging: TapeAndReel; PartId: 8553; Part Status: Active; Price: 0.13; Series: UZR; Size / Dimension: 0.157" Dia (4.00mm); Supplier 1: DigiKey; Supplier Part Number 1: 493-10099-1-ND; Tolerance: ±20%; Value: 22µF; Voltage - Rated: 6.3V
footprint CAP ALSMD 4.3MM H5.4MM
pins: 1, 2

## UZR0J330MCL1GB
designator C?, comment 33µF
CAP ALUM 33UF 20% 6.3V SMD; Part Number: UZR0J330MCL1GB; Manufacturer: Nichicon; Lifetime @ Temp.: 1000 Hrs @ 85°C; Ripple Current @ High Frequency: 55.5mA @ 10kHz; Ripple Current @ Low Frequency: 37mA @ 120Hz; Surface Mount Land Size: 0.209" L x 0.209" W (5.30mm x 5.30mm); Applications: General Purpose; Capacitance: 33µF; ComponentLink1Description: Datasheet; ComponentLink1URL: http://nichicon-us.com/english/products/pdfs/e-uzr.pdf; ComponentLink2Description: DigiKey Link; ComponentLink2URL: http://digikey.com/product-detail/en/nichicon/UZR0J330MCL1GB/493-10100-1-ND/3983945; Device Package: Radial, Can - SMD; Height - Seated (Max): 0.156" (3.95mm); LastUpdated: 9/2/2020 1:18:29 AM; Lifecycle Status: Active; Minimum Order: 1; Mounting Type: Surface Mount; Operating Temperature: -40°C ~ 85°C; Package / Case: Radial, Can - SMD; Packaging: TapeAndReel; PartId: 8574; Part Status: Active; Price: 0.16; Series: UZR; Size / Dimension: 0.197" Dia (5.00mm); Supplier 1: DigiKey; Supplier Part Number 1: 493-10100-1-ND; Tolerance: ±20%; Value: 33µF; Voltage - Rated: 6.3V
footprint CAP ALSMD 5.3MM H5.4MM
pins: 1, 2

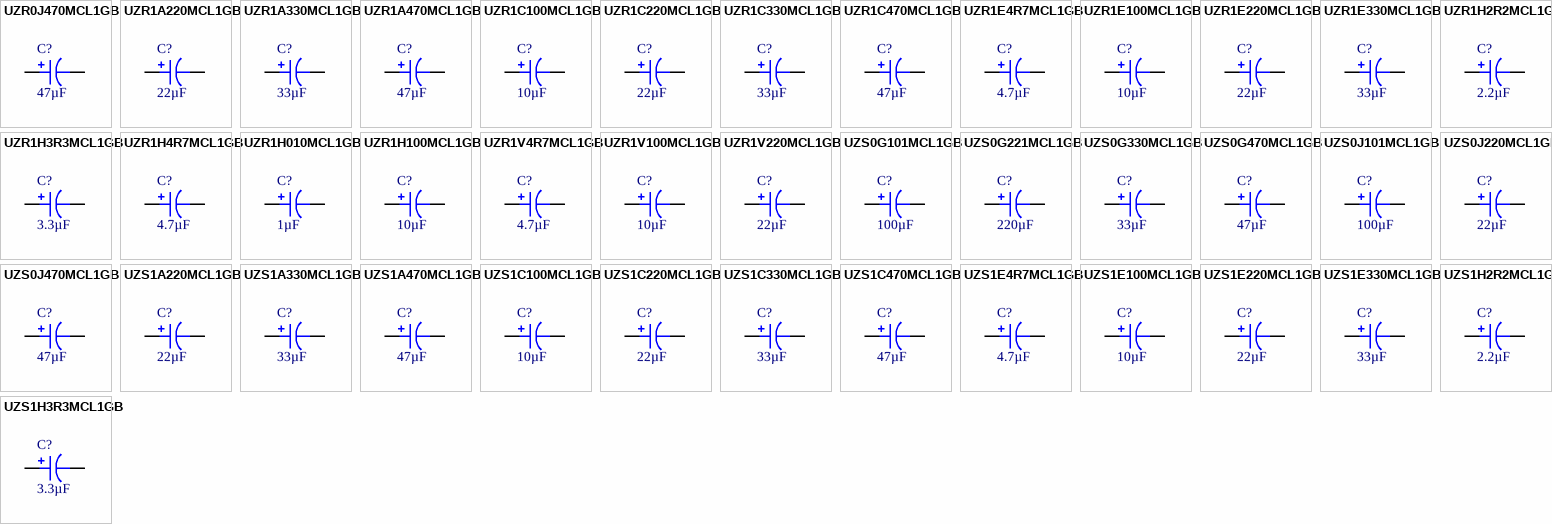
[diagram p48: symbols UZR0J470MCL1GB to UZS1H3R3MCL1GB]

## UZR0J470MCL1GB
designator C?, comment 47µF
CAP ALUM 47UF 20% 6.3V SMD; Part Number: UZR0J470MCL1GB; Manufacturer: Nichicon; Lifetime @ Temp.: 1000 Hrs @ 85°C; Ripple Current @ High Frequency: 67.5mA @ 10kHz; Ripple Current @ Low Frequency: 33mA @ 120Hz; Surface Mount Land Size: 0.209" L x 0.209" W (5.30mm x 5.30mm); Applications: General Purpose; Capacitance: 47µF; ComponentLink1Description: Datasheet; ComponentLink1URL: http://nichicon-us.com/english/products/pdfs/e-uzr.pdf; ComponentLink2Description: DigiKey Link; ComponentLink2URL: http://digikey.com/product-detail/en/nichicon/UZR0J470MCL1GB/493-10101-1-ND/3983946; Device Package: Radial, Can - SMD; Height - Seated (Max): 0.156" (3.95mm); LastUpdated: 9/2/2020 1:18:30 AM; Lifecycle Status: Active; Minimum Order: 1; Mounting Type: Surface Mount; Operating Temperature: -40°C ~ 85°C; Package / Case: Radial, Can - SMD; Packaging: TapeAndReel; PartId: 8595; Part Status: Active; Price: 0.14; Series: UZR; Size / Dimension: 0.197" Dia (5.00mm); Supplier 1: DigiKey; Supplier Part Number 1: 493-10101-1-ND; Tolerance: ±20%; Value: 47µF; Voltage - Rated: 6.3V
footprint CAP ALSMD 5.3MM H5.4MM
pins: 1, 2

## UZR1A220MCL1GB
designator C?, comment 22µF
CAP ALUM 22UF 20% 10V SMD; Part Number: UZR1A220MCL1GB; Manufacturer: Nichicon; Lifetime @ Temp.: 1000 Hrs @ 85°C; Ripple Current @ High Frequency: 49.5mA @ 10kHz; Ripple Current @ Low Frequency: 33mA @ 120Hz; Surface Mount Land Size: 0.209" L x 0.209" W (5.30mm x 5.30mm); Applications: General Purpose; Capacitance: 22µF; ComponentLink1Description: Datasheet; ComponentLink1URL: http://nichicon-us.com/english/products/pdfs/e-uzr.pdf; ComponentLink2Description: DigiKey Link; ComponentLink2URL: http://digikey.com/product-detail/en/nichicon/UZR1A220MCL1GB/493-10103-1-ND/3983948; Device Package: Radial, Can - SMD; Height - Seated (Max): 0.156" (3.95mm); LastUpdated: 9/2/2020 1:18:30 AM; Lifecycle Status: Active; Minimum Order: 1; Mounting Type: Surface Mount; Operating Temperature: -40°C ~ 85°C; Package / Case: Radial, Can - SMD; Packaging: TapeAndReel; PartId: 8613; Part Status: Active; Price: 0.16; Series: UZR; Size / Dimension: 0.197" Dia (5.00mm); Supplier 1: DigiKey; Supplier Part Number 1: 493-10103-1-ND; Tolerance: ±20%; Value: 22µF; Voltage - Rated: 10V
footprint CAP ALSMD 5.3MM H5.4MM
pins: 1, 2

## UZR1A330MCL1GB
designator C?, comment 33µF
CAP ALUM 33UF 20% 10V SMD; Part Number: UZR1A330MCL1GB; Manufacturer: Nichicon; Lifetime @ Temp.: 1000 Hrs @ 85°C; Ripple Current @ High Frequency: 61.5mA @ 10kHz; Ripple Current @ Low Frequency: 41mA @ 120Hz; Surface Mount Land Size: 0.209" L x 0.209" W (5.30mm x 5.30mm); Applications: General Purpose; Capacitance: 33µF; ComponentLink1Description: Datasheet; ComponentLink1URL: http://nichicon-us.com/english/products/pdfs/e-uzr.pdf; ComponentLink2Description: DigiKey Link; ComponentLink2URL: http://digikey.com/product-detail/en/nichicon/UZR1A330MCL1GB/493-10104-1-ND/3983949; Device Package: Radial, Can - SMD; Height - Seated (Max): 0.156" (3.95mm); LastUpdated: 9/2/2020 1:18:30 AM; Lifecycle Status: Active; Minimum Order: 1; Mounting Type: Surface Mount; Operating Temperature: -40°C ~ 85°C; Package / Case: Radial, Can - SMD; Packaging: TapeAndReel; PartId: 8604; Part Status: Active; Price: 0.16; Series: UZR; Size / Dimension: 0.197" Dia (5.00mm); Supplier 1: DigiKey; Supplier Part Number 1: 493-10104-1-ND; Tolerance: ±20%; Value: 33µF; Voltage - Rated: 10V
footprint CAP ALSMD 5.3MM H5.4MM
pins: 1, 2

## UZR1A470MCL1GB
designator C?, comment 47µF
CAP ALUM 47UF 20% 10V SMD; Part Number: UZR1A470MCL1GB; Manufacturer: Nichicon; Lifetime @ Temp.: 1000 Hrs @ 85°C; Ripple Current @ High Frequency: 78mA @ 10kHz; Ripple Current @ Low Frequency: 52mA @ 120Hz; Surface Mount Land Size: 0.260" L x 0.260" W (6.60mm x 6.60mm); Applications: General Purpose; Capacitance: 47µF; ComponentLink1Description: Datasheet; ComponentLink1URL: http://nichicon-us.com/english/products/pdfs/e-uzr.pdf; ComponentLink2Description: DigiKey Link; ComponentLink2URL: http://digikey.com/product-detail/en/nichicon/UZR1A470MCL1GB/493-10105-1-ND/3983950; Device Package: Radial, Can - SMD; Height - Seated (Max): 0.156" (3.95mm); LastUpdated: 9/2/2020 1:18:33 AM; Lifecycle Status: Active; Minimum Order: 1; Mounting Type: Surface Mount; Operating Temperature: -40°C ~ 85°C; Package / Case: Radial, Can - SMD; Packaging: TapeAndReel; PartId: 8736; Part Status: Active; Price: 0.18; Series: UZR; Size / Dimension: 0.248" Dia (6.30mm); Supplier 1: DigiKey; Supplier Part Number 1: 493-10105-1-ND; Tolerance: ±20%; Value: 47µF; Voltage - Rated: 10V
footprint CAP ALSMD 6.6MM H5.4MM
pins: 1, 2

## UZR1C100MCL1GB
designator C?, comment 10µF
CAP ALUM 10UF 20% 16V SMD; Part Number: UZR1C100MCL1GB; Manufacturer: Nichicon; Lifetime @ Temp.: 1000 Hrs @ 85°C; Ripple Current @ High Frequency: 34.5mA @ 10kHz; Ripple Current @ Low Frequency: 23mA @ 120Hz; Surface Mount Land Size: 0.169" L x 0.169" W (4.30mm x 4.30mm); Applications: General Purpose; Capacitance: 10µF; ComponentLink1Description: Datasheet; ComponentLink1URL: http://nichicon-us.com/english/products/pdfs/e-uzr.pdf; ComponentLink2Description: DigiKey Link; ComponentLink2URL: http://digikey.com/product-detail/en/nichicon/UZR1C100MCL1GB/493-10106-1-ND/3983951; Device Package: Radial, Can - SMD; Height - Seated (Max): 0.156" (3.95mm); LastUpdated: 9/2/2020 1:18:27 AM; Lifecycle Status: Active; Minimum Order: 1; Mounting Type: Surface Mount; Operating Temperature: -40°C ~ 85°C; Package / Case: Radial, Can - SMD; Packaging: TapeAndReel; PartId: 8519; Part Status: Active; Price: 0.14; Series: UZR; Size / Dimension: 0.157" Dia (4.00mm); Supplier 1: DigiKey; Supplier Part Number 1: 493-10106-1-ND; Tolerance: ±20%; Value: 10µF; Voltage - Rated: 16V
footprint CAP ALSMD 4.3MM H5.4MM
pins: 1, 2

## UZR1C220MCL1GB
designator C?, comment 22µF
CAP ALUM 22UF 20% 16V SMD; Part Number: UZR1C220MCL1GB; Manufacturer: Nichicon; Lifetime @ Temp.: 1000 Hrs @ 85°C; Ripple Current @ High Frequency: 55.5mA @ 10kHz; Ripple Current @ Low Frequency: 37mA @ 120Hz; Surface Mount Land Size: 0.209" L x 0.209" W (5.30mm x 5.30mm); Applications: General Purpose; Capacitance: 22µF; ComponentLink1Description: Datasheet; ComponentLink1URL: http://nichicon-us.com/english/products/pdfs/e-uzr.pdf; ComponentLink2Description: DigiKey Link; ComponentLink2URL: http://digikey.com/product-detail/en/nichicon/UZR1C220MCL1GB/493-10107-1-ND/3983952; Device Package: Radial, Can - SMD; Height - Seated (Max): 0.156" (3.95mm); LastUpdated: 9/2/2020 1:18:30 AM; Lifecycle Status: Active; Minimum Order: 1; Mounting Type: Surface Mount; Operating Temperature: -40°C ~ 85°C; Package / Case: Radial, Can - SMD; Packaging: TapeAndReel; PartId: 8603; Part Status: Active; Price: 0.18; Series: UZR; Size / Dimension: 0.197" Dia (5.00mm); Supplier 1: DigiKey; Supplier Part Number 1: 493-10107-1-ND; Tolerance: ±20%; Value: 22µF; Voltage - Rated: 16V
footprint CAP ALSMD 5.3MM H5.4MM
pins: 1, 2

## UZR1C330MCL1GB
designator C?, comment 33µF
CAP ALUM 33UF 20% 16V SMD; Part Number: UZR1C330MCL1GB; Manufacturer: Nichicon; Lifetime @ Temp.: 1000 Hrs @ 85°C; Ripple Current @ High Frequency: 73.5mA @ 10kHz; Ripple Current @ Low Frequency: 49mA @ 120Hz; Surface Mount Land Size: 0.260" L x 0.260" W (6.60mm x 6.60mm); Applications: General Purpose; Capacitance: 33µF; ComponentLink1Description: Datasheet; ComponentLink1URL: http://nichicon-us.com/english/products/pdfs/e-uzr.pdf; ComponentLink2Description: DigiKey Link; ComponentLink2URL: http://digikey.com/product-detail/en/nichicon/UZR1C330MCL1GB/493-10108-1-ND/3983953; Device Package: Radial, Can - SMD; Height - Seated (Max): 0.156" (3.95mm); LastUpdated: 9/2/2020 1:18:33 AM; Lifecycle Status: Active; Minimum Order: 1; Mounting Type: Surface Mount; Operating Temperature: -40°C ~ 85°C; Package / Case: Radial, Can - SMD; Packaging: TapeAndReel; PartId: 8787; Part Status: Active; Price: 0.17; Series: UZR; Size / Dimension: 0.248" Dia (6.30mm); Supplier 1: DigiKey; Supplier Part Number 1: 493-10108-1-ND; Tolerance: ±20%; Value: 33µF; Voltage - Rated: 16V
footprint CAP ALSMD 6.6MM H5.4MM
pins: 1, 2

## UZR1C470MCL1GB
designator C?, comment 47µF
CAP ALUM 47UF 20% 16V SMD; Part Number: UZR1C470MCL1GB; Manufacturer: Nichicon; Lifetime @ Temp.: 1000 Hrs @ 85°C; Ripple Current @ High Frequency: 87mA @ 10kHz; Ripple Current @ Low Frequency: 58mA @ 120Hz; Surface Mount Land Size: 0.260" L x 0.260" W (6.60mm x 6.60mm); Applications: General Purpose; Capacitance: 47µF; ComponentLink1Description: Datasheet; ComponentLink1URL: http://nichicon-us.com/english/products/pdfs/e-uzr.pdf; ComponentLink2Description: DigiKey Link; ComponentLink2URL: http://digikey.com/product-detail/en/nichicon/UZR1C470MCL1GB/493-10109-1-ND/3983954; Device Package: Radial, Can - SMD; Height - Seated (Max): 0.156" (3.95mm); LastUpdated: 9/2/2020 1:18:32 AM; Lifecycle Status: Active; Minimum Order: 1; Mounting Type: Surface Mount; Operating Temperature: -40°C ~ 85°C; Package / Case: Radial, Can - SMD; Packaging: TapeAndReel; PartId: 8641; Part Status: Active; Price: 0.18; Series: UZR; Size / Dimension: 0.248" Dia (6.30mm); Supplier 1: DigiKey; Supplier Part Number 1: 493-10109-1-ND; Tolerance: ±20%; Value: 47µF; Voltage - Rated: 16V
footprint CAP ALSMD 6.6MM H5.4MM
pins: 1, 2

## UZR1E4R7MCL1GB
designator C?, comment 4.7µF
CAP ALUM 4.7UF 20% 25V SMD; Part Number: UZR1E4R7MCL1GB; Manufacturer: Nichicon; Lifetime @ Temp.: 1000 Hrs @ 85°C; Ripple Current @ High Frequency: 24mA @ 10kHz; Ripple Current @ Low Frequency: 16mA @ 120Hz; Surface Mount Land Size: 0.169" L x 0.169" W (4.30mm x 4.30mm); Applications: General Purpose; Capacitance: 4.7µF; ComponentLink1Description: Datasheet; ComponentLink1URL: http://nichicon-us.com/english/products/pdfs/e-uzr.pdf; ComponentLink2Description: DigiKey Link; ComponentLink2URL: http://digikey.com/product-detail/en/nichicon/UZR1E4R7MCL1GB/493-10110-1-ND/3983955; Device Package: Radial, Can - SMD; Height - Seated (Max): 0.156" (3.95mm); LastUpdated: 9/2/2020 1:18:27 AM; Lifecycle Status: Active; Minimum Order: 1; Mounting Type: Surface Mount; Operating Temperature: -40°C ~ 85°C; Package / Case: Radial, Can - SMD; Packaging: TapeAndReel; PartId: 8545; Part Status: Active; Price: 0.14; Series: UZR; Size / Dimension: 0.157" Dia (4.00mm); Supplier 1: DigiKey; Supplier Part Number 1: 493-10110-1-ND; Tolerance: ±20%; Value: 4.7µF; Voltage - Rated: 25V
footprint CAP ALSMD 4.3MM H5.4MM
pins: 1, 2

## UZR1E100MCL1GB
designator C?, comment 10µF
CAP ALUM 10UF 20% 25V SMD; Part Number: UZR1E100MCL1GB; Manufacturer: Nichicon; Lifetime @ Temp.: 1000 Hrs @ 85°C; Ripple Current @ High Frequency: 40.5mA @ 10kHz; Ripple Current @ Low Frequency: 27mA @ 120Hz; Surface Mount Land Size: 0.209" L x 0.209" W (5.30mm x 5.30mm); Applications: General Purpose; Capacitance: 10µF; ComponentLink1Description: Datasheet; ComponentLink1URL: http://nichicon-us.com/english/products/pdfs/e-uzr.pdf; ComponentLink2Description: DigiKey Link; ComponentLink2URL: http://digikey.com/product-detail/en/nichicon/UZR1E100MCL1GB/493-10111-1-ND/3983956; Device Package: Radial, Can - SMD; Height - Seated (Max): 0.156" (3.95mm); LastUpdated: 9/2/2020 1:18:30 AM; Lifecycle Status: Active; Minimum Order: 1; Mounting Type: Surface Mount; Operating Temperature: -40°C ~ 85°C; Package / Case: Radial, Can - SMD; Packaging: TapeAndReel; PartId: 8614; Part Status: Active; Price: 0.16; Series: UZR; Size / Dimension: 0.197" Dia (5.00mm); Supplier 1: DigiKey; Supplier Part Number 1: 493-10111-1-ND; Tolerance: ±20%; Value: 10µF; Voltage - Rated: 25V
footprint CAP ALSMD 5.3MM H5.4MM
pins: 1, 2

## UZR1E220MCL1GB
designator C?, comment 22µF
CAP ALUM 22UF 20% 25V SMD; Part Number: UZR1E220MCL1GB; Manufacturer: Nichicon; Lifetime @ Temp.: 1000 Hrs @ 85°C; Ripple Current @ High Frequency: 63mA @ 10kHz; Ripple Current @ Low Frequency: 42mA @ 120Hz; Surface Mount Land Size: 0.260" L x 0.260" W (6.60mm x 6.60mm); Applications: General Purpose; Capacitance: 22µF; ComponentLink1Description: Datasheet; ComponentLink1URL: http://nichicon-us.com/english/products/pdfs/e-uzr.pdf; ComponentLink2Description: DigiKey Link; ComponentLink2URL: http://digikey.com/product-detail/en/nichicon/UZR1E220MCL1GB/493-10112-1-ND/3983957; Device Package: Radial, Can - SMD; Height - Seated (Max): 0.156" (3.95mm); LastUpdated: 9/2/2020 1:18:32 AM; Lifecycle Status: Active; Minimum Order: 1; Mounting Type: Surface Mount; Operating Temperature: -40°C ~ 85°C; Package / Case: Radial, Can - SMD; Packaging: TapeAndReel; PartId: 8652; Part Status: Active; Price: 0.15; Series: UZR; Size / Dimension: 0.248" Dia (6.30mm); Supplier 1: DigiKey; Supplier Part Number 1: 493-10112-1-ND; Tolerance: ±20%; Value: 22µF; Voltage - Rated: 25V
footprint CAP ALSMD 6.6MM H5.4MM
pins: 1, 2